# Altium schematic symbol library Arducam.SchLib: 2 symbols
Pins are listed as number, name and electrical type; pins without a type are passive.

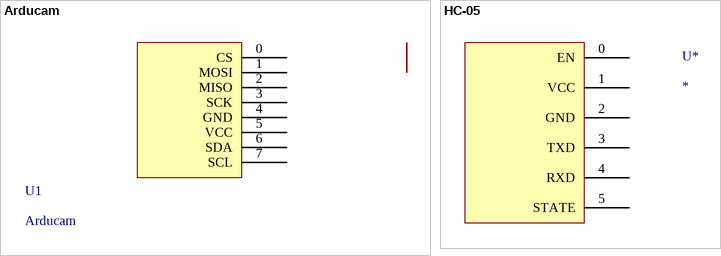
[diagram p0: symbols Arducam to HC-05]

## Arducam
designator U1
pins: 0 CS, 1 MOSI, 2 MISO, 3 SCK, 4 GND, 5 VCC, 6 SDA, 7 SCL

## HC-05
designator U*
Bluetooth module
pins: 0 EN, 1 VCC, 2 GND, 3 TXD, 4 RXD, 5 STATE